# EAGLE library part AD7683BRMZ (library MSA_lib)
16-Bit, 100 kSPS, Single-Ended PulSAR ADC in MSOP
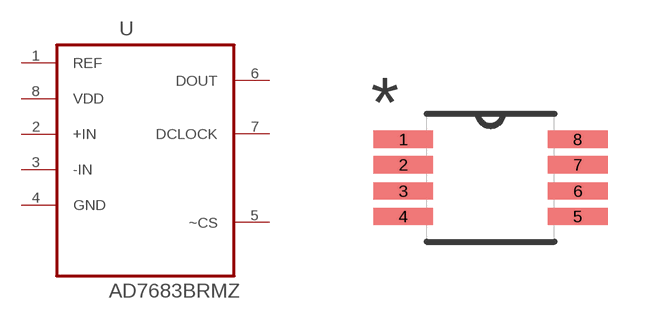
[diagram p6: symbol with the pads of SOP65P490X110-8N; footprint SOP65P490X110-8N]

Designator prefix U

## AD7683BRMZ (MPN: AD7683BRMZ; OC_FARNELL: 1078339; OC_NEWARK: 19M0886; PACKAGE: MSOP-8; SUPPLIER: Analog Devices)  [SOP65P490X110-8N]
1  REF  pas
2  +IN  in
3  -IN  in
4  GND  pas
5  ~CS  in
6  DOUT  out
7  DCLOCK  in
8  VDD  pwr

## Footprint SOP65P490X110-8N (pad centres in mm)
smd 1.499 x 0.432: 1 -2.184,0.965; 2 -2.184,0.33; 3 -2.184,-0.33; 4 -2.184,-0.965; 5 2.184,-0.965; 6 2.184,-0.33; 7 2.184,0.33; 8 2.184,0.965